# Altium footprint library 61304011121-4.PcbLib: 1 footprints
Each footprint in its own frame and in the unit in brackets; x right, y up, seen from the top. Pads: shape width x height; smd on the part's side, far side on the other; paste and mask are expansions set on the pad; w line width, h text height; cw(c..) or ccw(c..) is an arc to the next point about the centre after c.
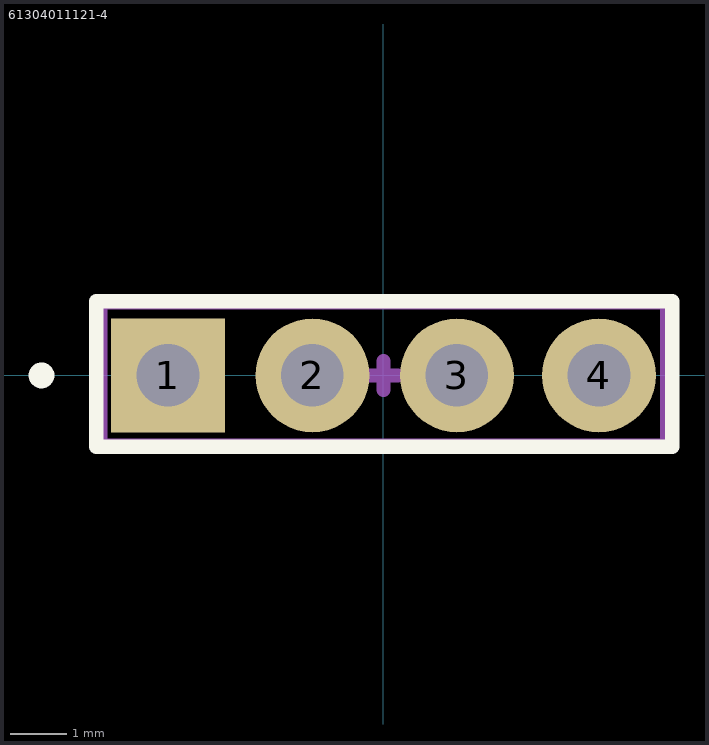
[diagram p0: the footprint, top view; thin cyan lines are the x and y axes]

## 61304011121-4 [mm]
pads (4):
  rect 2x2 hole 1.1 mask+0.051: 1(-3.788,0)
  round 2 hole 1.1 mask+0.051: 2(-1.248,0) 3(1.292,0) 4(3.789,0)
Top Overlay:
  circle w0.254: c-6.011,0 r0.1
  lines w0.254: -5.05,-1.25 5.075,-1.25 5.075,1.3 1.189,1.3 -5.05,1.3 -5.05,-1.25
Top Designator:
  text ".Designator" at -8.136,-0.483 h1.52
3D Body:
  lines w0.254: -4.975,-1.236 4.989,-1.236 4.989,1.283 -4.975,1.283 -4.975,-1.236
Center Cross:
  lines w0.25: -0.25,0 0,0 ; 0,-0.25 0,0 ; 0,0.25 0,0 ; 0.25,0 0,0
3D body "61304011121-4.stp": height 8.77, standoff -2.77, extent -5.091,-1.17 5.069,1.37